# EAGLE library part FT232HQ (library FT232HQ)
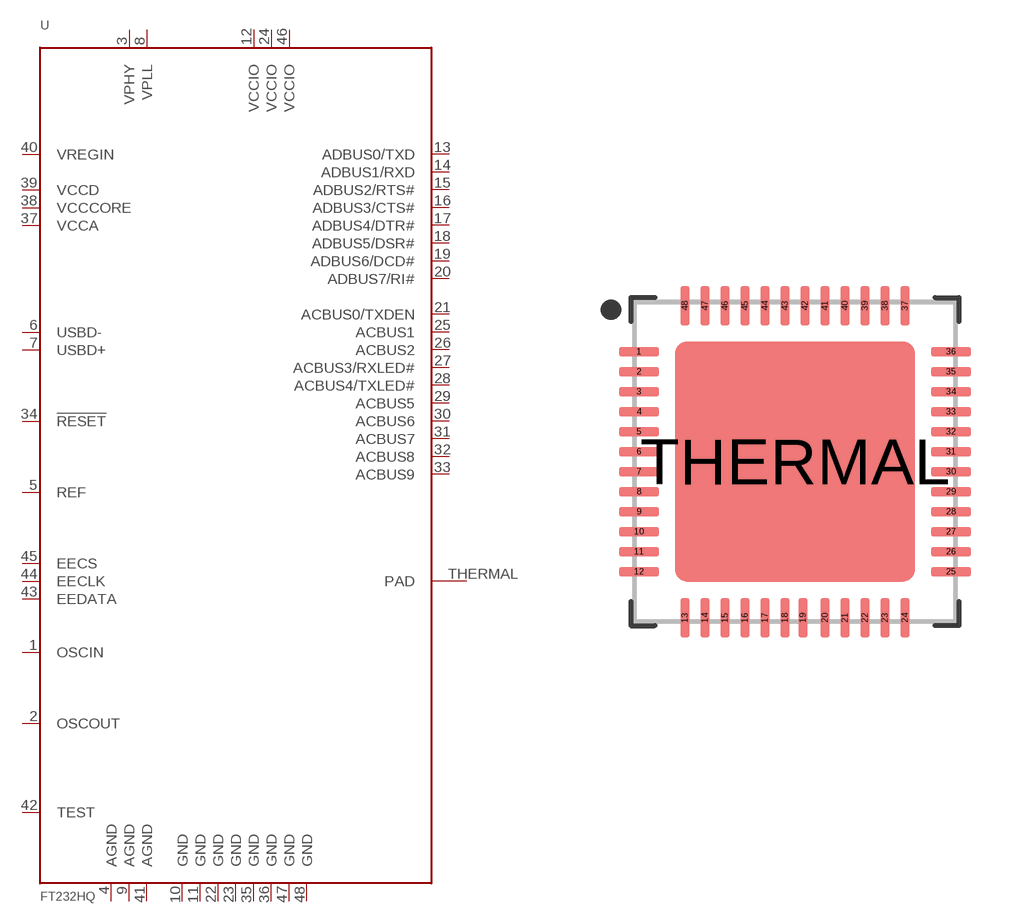
[diagram p0: symbol with the pads of FT232HQ; footprint FT232HQ]

Designator prefix U

## FT232HQQ (MFR: FTDI; MFR_PN: FT232HQ-REEL)  [FT232HQ]
1  OSCIN  in
2  OSCOUT  out
3  VPHY  pwr
4  AGND  pwr
5  REF  in
6  USBD-
7  USBD+
8  VPLL  pwr
9  AGND  pwr
10  GND  pwr
11  GND  pwr
12  VCCIO  pwr
13  ADBUS0/TXD  out
14  ADBUS1/RXD  in
15  ADBUS2/RTS#  out
16  ADBUS3/CTS#  in
17  ADBUS4/DTR#  out
18  ADBUS5/DSR#  in
19  ADBUS6/DCD#  in
20  ADBUS7/RI#  in
21  ACBUS0/TXDEN
22  GND  pwr
23  GND  pwr
24  VCCIO  pwr
25  ACBUS1
26  ACBUS2
27  ACBUS3/RXLED#
28  ACBUS4/TXLED#
29  ACBUS5
30  ACBUS6
31  ACBUS7
32  ACBUS8
33  ACBUS9
34  !RESET  in
35  GND  pwr
36  GND  pwr
37  VCCA  sup
38  VCCCORE  sup
39  VCCD  pwr
40  VREGIN  pwr
41  AGND  pwr
42  TEST  in
43  EEDATA
44  EECLK  out
45  EECS
46  VCCIO  pwr
47  GND  pwr
48  GND  pwr
THERMAL  PAD  pas

## Footprint FT232HQ (pad centres in mm)
smd 1 x 0.23: 1 -3.9,2.75; 2 -3.9,2.25; 3 -3.9,1.75; 4 -3.9,1.25; 5 -3.9,0.75; 6 -3.9,0.25; 7 -3.9,-0.25; 8 -3.9,-0.75; 9 -3.9,-1.25; 10 -3.9,-1.75; 11 -3.9,-2.25; 12 -3.9,-2.75; 25 3.9,-2.75; 26 3.9,-2.25; 27 3.9,-1.75; 28 3.9,-1.25; 29 3.9,-0.75; 30 3.9,-0.25; 31 3.9,0.25; 32 3.9,0.75; 33 3.9,1.25; 34 3.9,1.75; 35 3.9,2.25; 36 3.9,2.75
smd 0.23 x 1: 13 -2.75,-3.9; 14 -2.25,-3.9; 15 -1.75,-3.9; 16 -1.25,-3.9; 17 -0.75,-3.9; 18 -0.25,-3.9; 19 0.2,-3.9; 20 0.75,-3.9; 21 1.25,-3.9; 22 1.75,-3.9; 23 2.25,-3.9; 24 2.75,-3.9; 37 2.75,3.9; 38 2.25,3.9; 39 1.75,3.9; 40 1.25,3.9; 41 0.75,3.9; 42 0.25,3.9; 43 -0.25,3.9; 44 -0.75,3.9; 45 -1.25,3.9; 46 -1.75,3.9; 47 -2.25,3.9; 48 -2.75,3.9
smd 6 x 6: THERMAL 0,0